# Altium footprint library 470uF 50V Elektrolikit Kapasitör.PcbLib: 1 footprints
Each footprint in its own frame and in the unit in brackets; x right, y up, seen from the top. Pads: shape width x height; smd on the part's side, far side on the other; paste and mask are expansions set on the pad; w line width, h text height; cw(c..) or ccw(c..) is an arc to the next point about the centre after c.
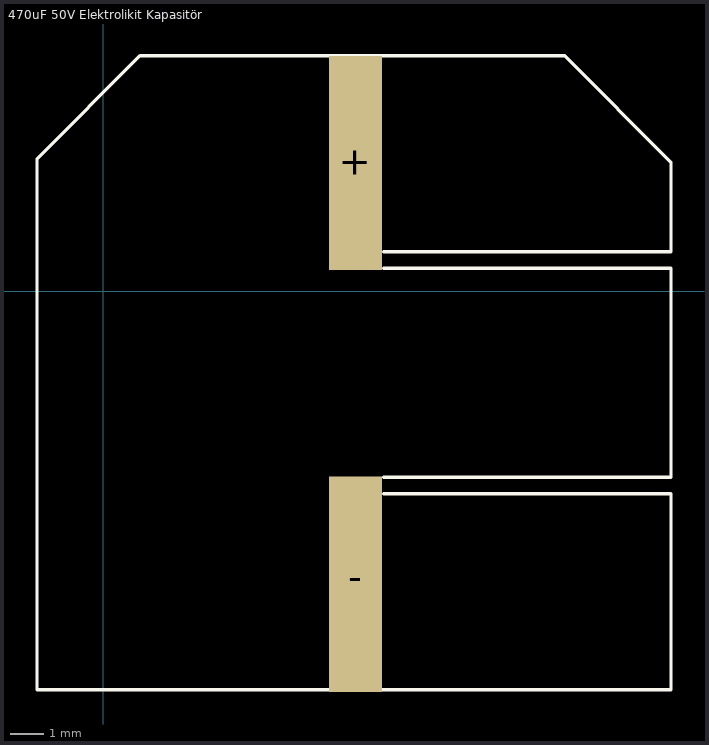
[diagram p0: the footprint, top view; thin cyan lines are the x and y axes]

## 470uF 50V Elektrolikit Kapasitör [mm]
pads (2):
  rect 1.6x6.45 smd mask+0.01: +(7.6,3.875)
  rect 1.6x6.5 smd mask+0.01: -(7.6,-8.825)
Top Overlay:
  lines w0.1: 6.833,-11.989 6.85,-11.971 ; 8.28,-11.989 8.288,-11.981 ; 8.45,-6.1 17.1,-6.1 17.1,-12 -2,-12 -2,4 1.1,7.1 13.9,7.1 17.1,3.9 17.1,1.2 8.45,1.2 ; 8.45,-5.6 17.1,-5.6 17.1,0.7 8.45,0.7